# Altium footprint library QFN65P600X600X100_HS-29N.PcbLib: 1 footprints
Each footprint in its own frame and in the unit in brackets; x right, y up, seen from the top. Pads: shape width x height; smd on the part's side, far side on the other; paste and mask are expansions set on the pad; w line width, h text height; cw(c..) or ccw(c..) is an arc to the next point about the centre after c.
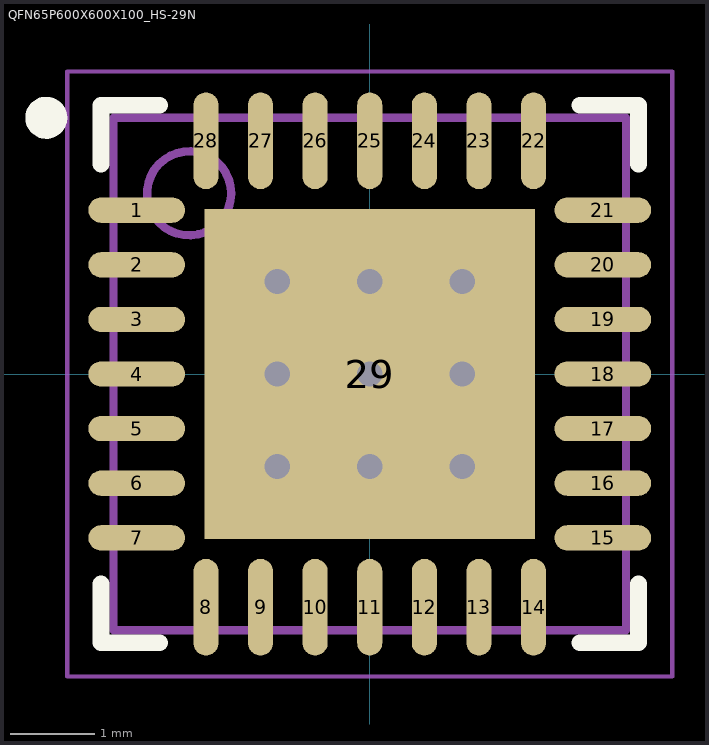
[diagram p0: the footprint, top view; thin cyan lines are the x and y axes]

## QFN65P600X600X100_HS-29N [mm] "QFN, 28-Leads, Body 6,00x6,00mm, Pitch 0,65mm, Thermal Pad 3,93x3,93mm, IPC Medium Density"
height 1
pads (29):
  oval 1.15x0.3 smd: 1(-2.775,1.95) 2(-2.775,1.3) 3(-2.775,0.65) 4(-2.775,0) 5(-2.775,-0.65) 6(-2.775,-1.3) 7(-2.775,-1.95) 15(2.775,-1.95) 16(2.775,-1.3) 17(2.775,-0.65) 18(2.775,0) 19(2.775,0.65) 20(2.775,1.3) 21(2.775,1.95)
  oval 0.3x1.15 smd: 8(-1.95,-2.775) 9(-1.3,-2.775) 10(-0.65,-2.775) 11(0,-2.775) 12(0.65,-2.775) 13(1.3,-2.775) 14(1.95,-2.775) 22(1.95,2.775) 23(1.3,2.775) 24(0.65,2.775) 25(0,2.775) 26(-0.65,2.775) 27(-1.3,2.775) 28(-1.95,2.775)
  rect 3.93x3.93 smd: 29(0,0)
via 1.1,-1.1 diameter 0.6 hole 0.3
via 0,-1.1 diameter 0.6 hole 0.3
via -1.1,-1.1 diameter 0.6 hole 0.3
via 1.1,0 diameter 0.6 hole 0.3
via 0,0 diameter 0.6 hole 0.3
via -1.1,0 diameter 0.6 hole 0.3
via 1.1,1.1 diameter 0.6 hole 0.3
via 0,1.1 diameter 0.6 hole 0.3
via -1.1,1.1 diameter 0.6 hole 0.3
Top Overlay:
  circle w0.25: c-3.85,3.05 r0.125
  lines w0.2: -3.2,-2.5 -3.2,-3.2 -2.5,-3.2 ; -3.2,2.5 -3.2,3.2 -2.5,3.2 ; 2.5,-3.2 3.2,-3.2 3.2,-2.5 ; 2.5,3.2 3.2,3.2 3.2,2.5
Top Assembly:
  circle w0.1: c-2.15,2.15 r0.5
  lines w0.1: -3.05,-3.05 3.05,-3.05 3.05,3.05 -3.05,3.05 -3.05,-3.05
Mechanical 15:
  lines w0.05: -3.6,-3.6 3.6,-3.6 3.6,3.6 -3.6,3.6 -3.6,-3.6
  lines w0.1: -0.5,0 0.5,0 ; 0,-0.5 0,0.5
3D body "QFN65P600X600X100_HS-29N.step": height 1, standoff 0, extent -3.1,-3.1 3.1,3.1